# Altium integrated library TriSolX_QzQube.IntLib: 1 symbol
Pins are listed as number, name and electrical type; pins without a type are passive.

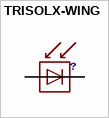
[diagram p0: symbol TRISOLX-WING]

## TRISOLX-WING
designator ?
footprint TRISOLX-T01
pins: P$2 C, P$3 A